# EAGLE library part ADV212 (library digistation)
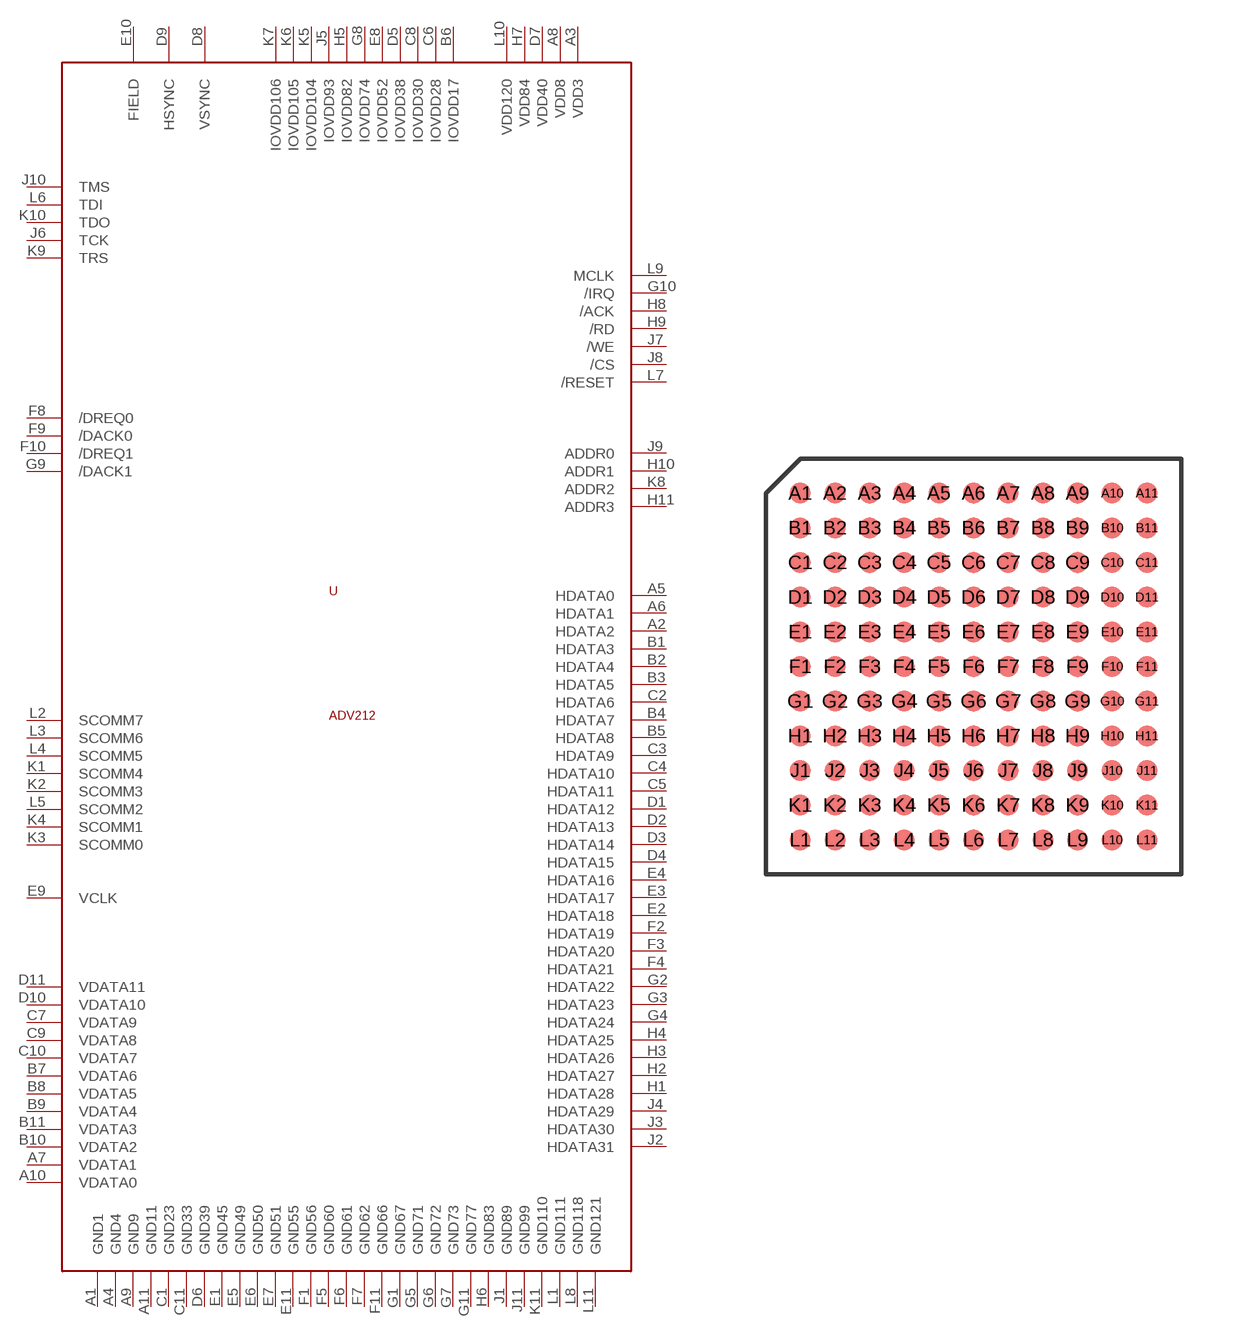
[diagram p2: symbol with the pads of BGA121; footprint BGA121]

Designator prefix -

## ADV212  [BGA121]
A1  GND1
A2  HDATA2
A3  VDD3
A4  GND4
A5  HDATA0
A6  HDATA1
A7  VDATA1
A8  VDD8
A9  GND9
A10  VDATA0
A11  GND11
B1  HDATA3
B2  HDATA4
B3  HDATA5
B4  HDATA7
B5  HDATA8
B6  IOVDD17
B7  VDATA6
B8  VDATA5
B9  VDATA4
B10  VDATA2
B11  VDATA3
C1  GND23
C2  HDATA6
C3  HDATA9
C4  HDATA10
C5  HDATA11
C6  IOVDD28
C7  VDATA9
C8  IOVDD30
C9  VDATA8
C10  VDATA7
C11  GND33
D1  HDATA12
D2  HDATA13
D3  HDATA14
D4  HDATA15
D5  IOVDD38
D6  GND39
D7  VDD40
D8  VSYNC
D9  HSYNC
D10  VDATA10
D11  VDATA11
E1  GND45
E2  HDATA18
E3  HDATA17
E4  HDATA16
E5  GND49
E6  GND50
E7  GND51
E8  IOVDD52
E9  VCLK
E10  FIELD
E11  GND55
F1  GND56
F2  HDATA19
F3  HDATA20
F4  HDATA21
F5  GND60
F6  GND61
F7  GND62
F8  /DREQ0
F9  /DACK0
F10  /DREQ1
F11  GND66
G1  GND67
G2  HDATA22
G3  HDATA23
G4  HDATA24
G5  GND71
G6  GND72
G7  GND73
G8  IOVDD74
G9  /DACK1
G10  /IRQ
G11  GND77
H1  HDATA28
H2  HDATA27
H3  HDATA26
H4  HDATA25
H5  IOVDD82
H6  GND83
H7  VDD84
H8  /ACK
H9  /RD
H10  ADDR1
H11  ADDR3
J1  GND89
J2  HDATA31
J3  HDATA30
J4  HDATA29
J5  IOVDD93
J6  TCK
J7  /WE
J8  /CS
J9  ADDR0
J10  TMS
J11  GND99
K1  SCOMM4
K2  SCOMM3
K3  SCOMM0
K4  SCOMM1
K5  IOVDD104
K6  IOVDD105
K7  IOVDD106
K8  ADDR2
K9  TRS
K10  TDO
K11  GND110
L1  GND111
L2  SCOMM7
L3  SCOMM6
L4  SCOMM5
L5  SCOMM2
L6  TDI
L7  /RESET
L8  GND118
L9  MCLK
L10  VDD120
L11  GND121

## Footprint BGA121 (pad centres in mm)
smd 0.6 x 0.6: A1 -5,5; A2 -4,5; A3 -3,5; A4 -2,5; A5 -1,5; A6 0,5; A7 1,5; A8 2,5; A9 3,5; A10 4,5; A11 5,5; B1 -5,4; B2 -4,4; B3 -3,4; B4 -2,4; B5 -1,4; B6 0,4; B7 1,4; B8 2,4; B9 3,4; B10 4,4; B11 5,4; C1 -5,3; C2 -4,3; C3 -3,3; C4 -2,3; C5 -1,3; C6 0,3; C7 1,3; C8 2,3; C9 3,3; C10 4,3; C11 5,3; D1 -5,2; D2 -4,2; D3 -3,2; D4 -2,2; D5 -1,2; D6 0,2; D7 1,2; D8 2,2; D9 3,2; D10 4,2; D11 5,2; E1 -5,1; E2 -4,1; E3 -3,1; E4 -2,1; E5 -1,1; E6 0,1; E7 1,1; E8 2,1; E9 3,1; E10 4,1; E11 5,1; F1 -5,0; F2 -4,0; F3 -3,0; F4 -2,0; F5 -1,0; F6 0,0; F7 1,0; F8 2,0; F9 3,0; F10 4,0; F11 5,0; G1 -5,-1; G2 -4,-1; G3 -3,-1; G4 -2,-1; G5 -1,-1; G6 0,-1; G7 1,-1; G8 2,-1; G9 3,-1; G10 4,-1; G11 5,-1; H1 -5,-2; H2 -4,-2; H3 -3,-2; H4 -2,-2; H5 -1,-2; H6 0,-2; H7 1,-2; H8 2,-2; H9 3,-2; H10 4,-2; H11 5,-2; J1 -5,-3; J2 -4,-3; J3 -3,-3; J4 -2,-3; J5 -1,-3; J6 0,-3; J7 1,-3; J8 2,-3; J9 3,-3; J10 4,-3; J11 5,-3; K1 -5,-4; K2 -4,-4; K3 -3,-4; K4 -2,-4; K5 -1,-4; K6 0,-4; K7 1,-4; K8 2,-4; K9 3,-4; K10 4,-4; K11 5,-4; L1 -5,-5; L2 -4,-5; L3 -3,-5; L4 -2,-5; L5 -1,-5; L6 0,-5; L7 1,-5; L8 2,-5; L9 3,-5; L10 4,-5; L11 5,-5